# Altium footprint library W25N02.PcbLib: 1 footprints
Each footprint in its own frame and in the unit in brackets; x right, y up, seen from the top. Pads: shape width x height; smd on the part's side, far side on the other; paste and mask are expansions set on the pad; w line width, h text height; cw(c..) or ccw(c..) is an arc to the next point about the centre after c.
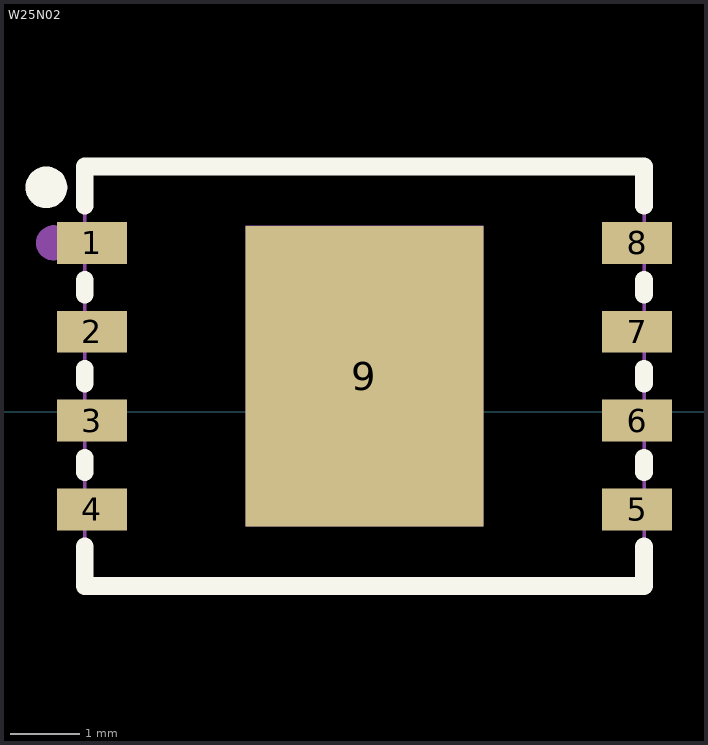
[diagram p0: the footprint, top view; thin cyan lines are the x and y axes]

## W25N02 [mil]
pads (9):
  rect 39.4x23.6 smd paste+0 mask+2: 1(-417.1,95) 2(-417.1,45) 3(-417.1,-5) 4(-417.1,-55) 5(-110,-55) 6(-110,-5) 7(-110,45) 8(-110,95)
  rect 133.9x169.3 smd paste-12 mask-2: 9(-263.6,20)
Top Overlay:
  lines w10: -421,-75.9 -421,-98.1 -106.1,-98.1 -106.1,-75.9 ; -421,-34.1 -421,-25.9 ; -421,15.9 -421,24.1 ; -421,65.9 -421,74.1 ; -421,115.9 -421,138.1 -108,138.1 ; -106.1,-34.1 -106.1,-25.9 ; -106.1,15.9 -106.1,24.1 ; -106.1,65.9 -106.1,74.1 ; -106.1,115.9 -106.1,138.1
  lines w11.8: -448.6,126.3 -448.2,124.3 -447.2,122.5 -445.6,121.2 -443.7,120.5 -441.7,120.5 -439.7,121.2 -438.2,122.5 -437.1,124.3 -436.8,126.3 -437.1,128.3 -438.2,130.1 -439.7,131.4 -441.7,132.1 -443.7,132.1 -445.6,131.4 -447.2,130.1 -448.2,128.3 -448.6,126.3
Mechanical 2:
  lines w10: -443.6,95 -443.2,93.1 -442.1,91.5 -440.5,90.4 -438.6,90 -436.6,90.4 -435,91.5 -433.9,93.1 -433.6,95 -433.9,96.9 -435,98.5 -436.6,99.6 -438.6,100 -440.5,99.6 -442.1,98.5 -443.2,96.9 -443.6,95
Mechanical 6:
  lines w2: -421,-98.1 -421,138.1 -106.1,138.1 -106.1,-98.1 -421,-98.1
Mechanical 8:
  region: -418.7,138.1 -419.1,136.8 -420.1,136 -421.4,135.8 -422.6,136.3 -423.3,137.5 -423.3,138.8 -422.6,139.9 -421.4,140.5 -420.1,140.3 -419.1,139.4
Mechanical 9:
  region: -106.1,52.9 -106.1,37.1 -125.8,37.1 -125.8,52.9
  region: -106.1,2.9 -106.1,-12.9 -125.8,-12.9 -125.8,2.9
  region: -106.1,-47.1 -106.1,-62.9 -125.8,-62.9 -125.8,-47.1
  region: -106.1,102.9 -106.1,87.1 -125.8,87.1 -125.8,102.9
  region: -421,-62.9 -421,-47.1 -401.4,-47.1 -401.4,-62.9
  region: -421,87.1 -421,102.9 -401.4,102.9 -401.4,87.1
  region: -421,37.1 -421,52.9 -401.4,52.9 -401.4,37.1
  region: -421,-12.9 -421,2.9 -401.4,2.9 -401.4,-12.9
  region: -330.5,-64.6 -330.5,104.7 -196.6,104.7 -196.6,-64.6